# Altium footprint library G3MB202P4DC5.PcbLib: 1 footprints
Each footprint in its own frame and in the unit in brackets; x right, y up, seen from the top. Pads: shape width x height; smd on the part's side, far side on the other; paste and mask are expansions set on the pad; w line width, h text height; cw(c..) or ccw(c..) is an arc to the next point about the centre after c.
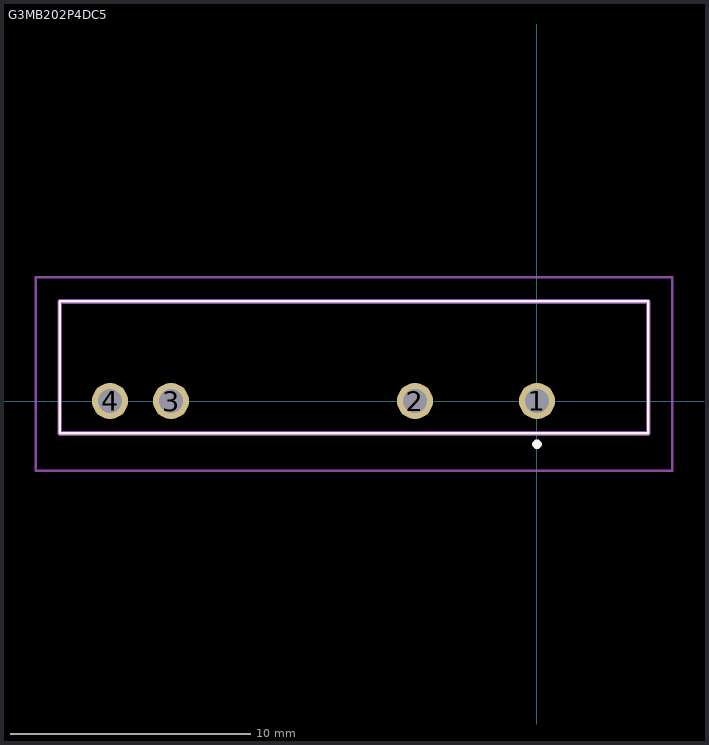
[diagram p0: the footprint, top view; thin cyan lines are the x and y axes]

## G3MB202P4DC5 [mm]
pads (4):
  round 1.5 hole 1: 1(0,0) 2(-5.08,0) 3(-15.24,0) 4(-17.78,0)
Top Overlay:
  lines w0.1: -19.87,-1.35 4.63,-1.35 4.63,4.15 -19.87,4.15 -19.87,-1.35
  lines w0.2: -0.1,-1.8 -0.1,-1.8 ; -0.1,-1.8 cw(c0,-1.8) 0.1,-1.8 ; -0.1,-1.8 ccw(c0,-1.8) 0.1,-1.8 ; 0.1,-1.8 0.1,-1.8
Mechanical 15:
  lines w0.2: -19.87,-1.35 4.63,-1.35 4.63,4.15 -19.87,4.15 -19.87,-1.35
Mechanical 20:
  lines w0.1: -20.87,-2.9 5.63,-2.9 5.63,5.15 -20.87,5.15 -20.87,-2.9